# EAGLE library part SO16W (library ic-packages)
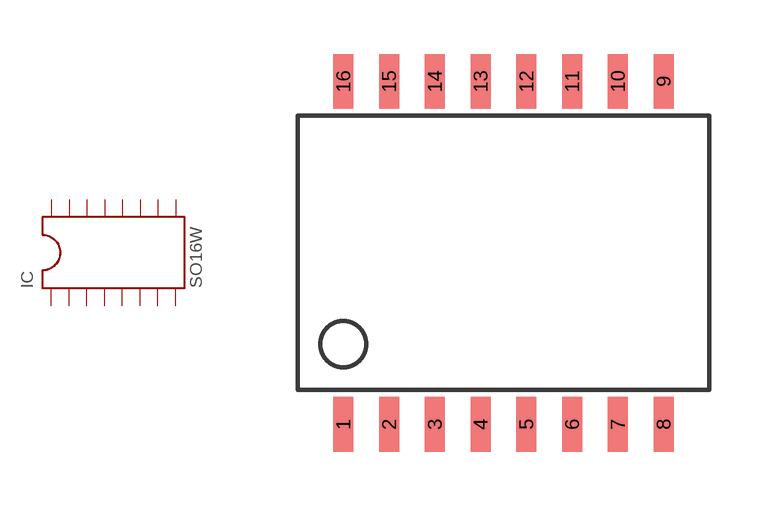
[diagram p9: symbol with the pads of SO16W; footprint SO16W]

Designator prefix IC

## SO16W  [SO16W]
1  P$1
2  P$2
3  P$3
4  P$4
5  P$5
6  P$6
7  P$7
8  P$8
9  P$9
10  P$10
11  P$11
12  P$12
13  P$13
14  P$14
15  P$15
16  P$16

## Footprint SO16W (pad centres in mm)
smd 0.559 x 1.524: 1 -3.81,-4.763; 2 -2.54,-4.763; 3 -1.27,-4.763; 4 0,-4.763; 5 1.27,-4.763; 6 2.54,-4.763; 7 3.81,-4.763; 8 5.08,-4.763; 9 5.08,4.763; 10 3.81,4.763; 11 2.54,4.763; 12 1.27,4.763; 13 0,4.763; 14 -1.27,4.763; 15 -2.54,4.763; 16 -3.81,4.763